# EAGLE library part SON50P200X300X80-9N (library Main_board)
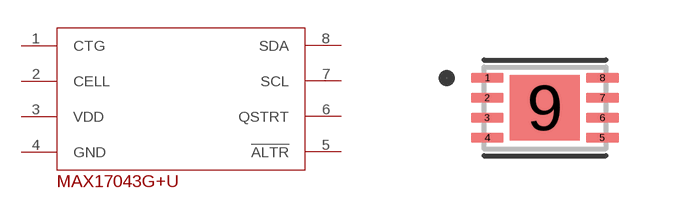
[diagram p1: symbol with the pads of SON50P200X300X80-9N; footprint SON50P200X300X80-9N]

Designator prefix U

## SON50P200X300X80-9N (A_MAX: 0.8; B_MAX: 0.3; B_MIN: 0.18; B_NOM: 0.24; D2_NOM: 1.63; D_MAX: 2.05; D_MIN: 1.95; D_NOM: 2.0; E2_NOM: 1.75; ENOM: 0.5; E_MAX: 3.05; E_MIN: 2.95; E_NOM: 3.0; L_MAX: 0.489; L_MIN: 0.289; L_NOM: 0.4; MANUFACTURER: Maxim Integrated; PIN_COUNT: 8.0; SNAPEDA_PACKAGE_ID: 70579; STANDARD: IPC 7351B)  [SON50P200X300X80-9N]
1  CTG
2  CELL
3  VDD
4  GND
5  !ALTR
6  QSTRT
7  SCL
8  SDA

## Footprint SON50P200X300X80-9N (pad centres in mm)
smd 0.82 x 0.26: 1 -1.44,0.75; 2 -1.44,0.25; 3 -1.44,-0.25; 4 -1.44,-0.75; 5 1.44,-0.75; 6 1.44,-0.25; 7 1.44,0.25; 8 1.44,0.75
smd 1.75 x 1.63: 9 0,0